# EAGLE library part ATMEGA1284P-MU (library ATMEGA1284P-MU)
ATMEGA1284P-MU, 8 bit AVR Microcontroller 20MHz 4, 128kb Flash, 16kb RAM, I2C SPI 44-Pin VQFN Source: Datasheet <https://componentsearchengine.com/Datasheets/1/ATMEGA1284P-MU.pdf> Check prices <https://pricing.snapeda.com/parts/ATMEGA1284P-MU/Microchip/view-part?ref=eda>
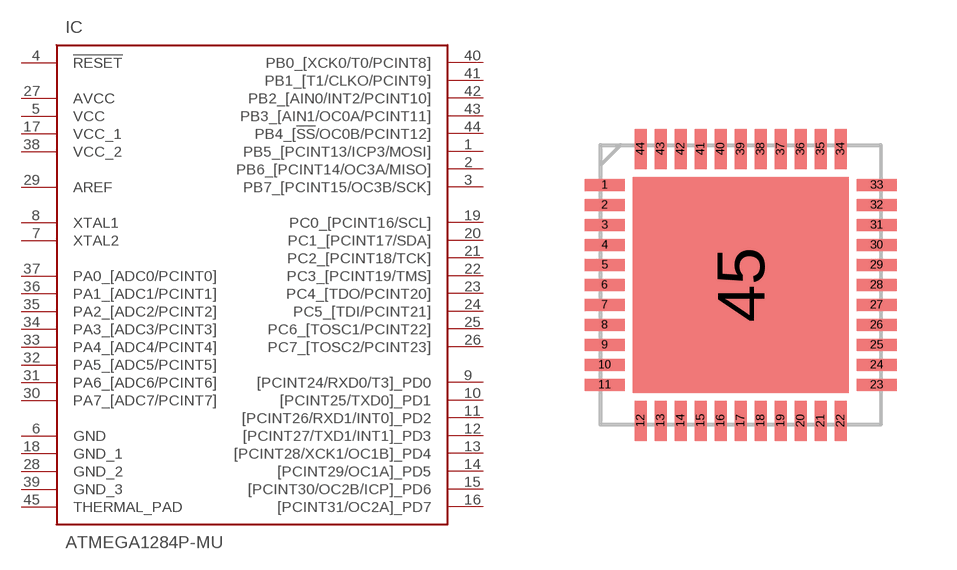
[diagram p0: symbol with the pads of QFN50P700X700X100-45N; footprint QFN50P700X700X100-45N]

Designator prefix IC

## ATMEGA1284P-MU (AVAILABILITY: Warning; DESCRIPTION: AVR AVR® ATmega Microcontroller IC 8-Bit 20MHz 128KB (64K x 16) FLASH 44-VQFN (7x7); MF: Microchip; MP: ATMEGA1284P-MU; PACKAGE: VQFN-44 Microchip; PRICE: None; PURCHASE-URL: https://pricing.snapeda.com/search/part/ATMEGA1284P-MU/?ref=eda)  [QFN50P700X700X100-45N]
1  PB5_[PCINT13/ICP3/MOSI]  in
2  PB6_[PCINT14/OC3A/MISO]  in
3  PB7_[PCINT15/OC3B/SCK]  in
4  !RESET
5  VCC  pwr
6  GND  pwr
7  XTAL2
8  XTAL1
9  [PCINT24/RXD0/T3]_PD0  in
10  [PCINT25/TXD0]_PD1  in
11  [PCINT26/RXD1/INT0]_PD2  in
12  [PCINT27/TXD1/INT1]_PD3  in
13  [PCINT28/XCK1/OC1B]_PD4  in
14  [PCINT29/OC1A]_PD5  in
15  [PCINT30/OC2B/ICP]_PD6  in
16  [PCINT31/OC2A]_PD7  in
17  VCC_1  pwr
18  GND_1  pwr
19  PC0_[PCINT16/SCL]  in
20  PC1_[PCINT17/SDA]  in
21  PC2_[PCINT18/TCK]  in
22  PC3_[PCINT19/TMS]  in
23  PC4_[TDO/PCINT20]  in
24  PC5_[TDI/PCINT21]  in
25  PC6_[TOSC1/PCINT22]  in
26  PC7_[TOSC2/PCINT23]  in
27  AVCC  pwr
28  GND_2  pwr
29  AREF  in
30  PA7_[ADC7/PCINT7]  in
31  PA6_[ADC6/PCINT6]  in
32  PA5_[ADC5/PCINT5]  in
33  PA4_[ADC4/PCINT4]  in
34  PA3_[ADC3/PCINT3]  in
35  PA2_[ADC2/PCINT2]  in
36  PA1_[ADC1/PCINT1]  in
37  PA0_[ADC0/PCINT0]  in
38  VCC_2  pwr
39  GND_3  pwr
40  PB0_[XCK0/T0/PCINT8]  in
41  PB1_[T1/CLKO/PCINT9]  out
42  PB2_[AIN0/INT2/PCINT10]  in
43  PB3_[AIN1/OC0A/PCINT11]  in
44  PB4_[!SS!/OC0B/PCINT12]  in
45  THERMAL_PAD

## Footprint QFN50P700X700X100-45N (pad centres in mm)
VQFN 44M1
smd 1 x 0.3: 1 -3.4,2.5; 2 -3.4,2; 3 -3.4,1.5; 4 -3.4,1; 5 -3.4,0.5; 6 -3.4,0; 7 -3.4,-0.5; 8 -3.4,-1; 9 -3.4,-1.5; 10 -3.4,-2; 11 -3.4,-2.5; 23 3.4,-2.5; 24 3.4,-2; 25 3.4,-1.5; 26 3.4,-1; 27 3.4,-0.5; 28 3.4,0; 29 3.4,0.5; 30 3.4,1; 31 3.4,1.5; 32 3.4,2; 33 3.4,2.5
smd 0.3 x 1: 12 -2.5,-3.4; 13 -2,-3.4; 14 -1.5,-3.4; 15 -1,-3.4; 16 -0.5,-3.4; 17 0,-3.4; 18 0.5,-3.4; 19 1,-3.4; 20 1.5,-3.4; 21 2,-3.4; 22 2.5,-3.4; 34 2.5,3.4; 35 2,3.4; 36 1.5,3.4; 37 1,3.4; 38 0.5,3.4; 39 0,3.4; 40 -0.5,3.4; 41 -1,3.4; 42 -1.5,3.4; 43 -2,3.4; 44 -2.5,3.4
smd 5.4 x 5.4: 45 0,0